# Altium footprint library DS1040-01RN.PcbLib: 1 footprints
Each footprint in its own frame and in the unit in brackets; x right, y up, seen from the top. Pads: shape width x height; smd on the part's side, far side on the other; paste and mask are expansions set on the pad; w line width, h text height; cw(c..) or ccw(c..) is an arc to the next point about the centre after c.
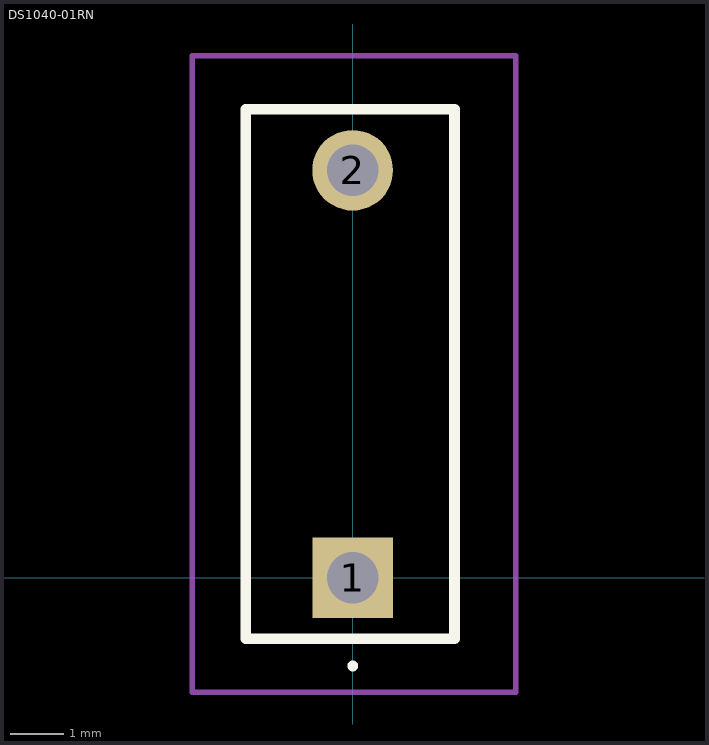
[diagram p0: the footprint, top view; thin cyan lines are the x and y axes]

## DS1040-01RN [mm]
pads (2):
  rect 1.509x1.509 hole 0.97: 1(0,0)
  round 1.509 hole 0.97: 2(0,7.62)
Top Overlay:
  lines w0.1: 0,-1.7 ccw(c0,-1.65) 0,-1.6 ccw(c0,-1.65) 0,-1.7
  lines w0.2: 1.905,-1.143 1.905,8.698 ; 1.905,-1.14 -2,-1.14 -2,8.76 1.905,8.76
Mechanical 13:
  lines w0.1: -2,-1.143 1.905,-1.143 1.905,8.76 -2,8.76 -2,-1.143
Mechanical 15:
  lines w0.1: -3,-2.14 3.048,-2.14 3.048,9.76 -3,9.76 -3,-2.14
3D body "DS1040-01.STEP": height 6.8, standoff -3.85, extent -2,-1.14 2,8.76